# Altium footprint library INDDFN2_780X780X530L260X780.PcbLib: 1 footprints
Each footprint in its own frame and in the unit in brackets; x right, y up, seen from the top. Pads: shape width x height; smd on the part's side, far side on the other; paste and mask are expansions set on the pad; w line width, h text height; cw(c..) or ccw(c..) is an arc to the next point about the centre after c.
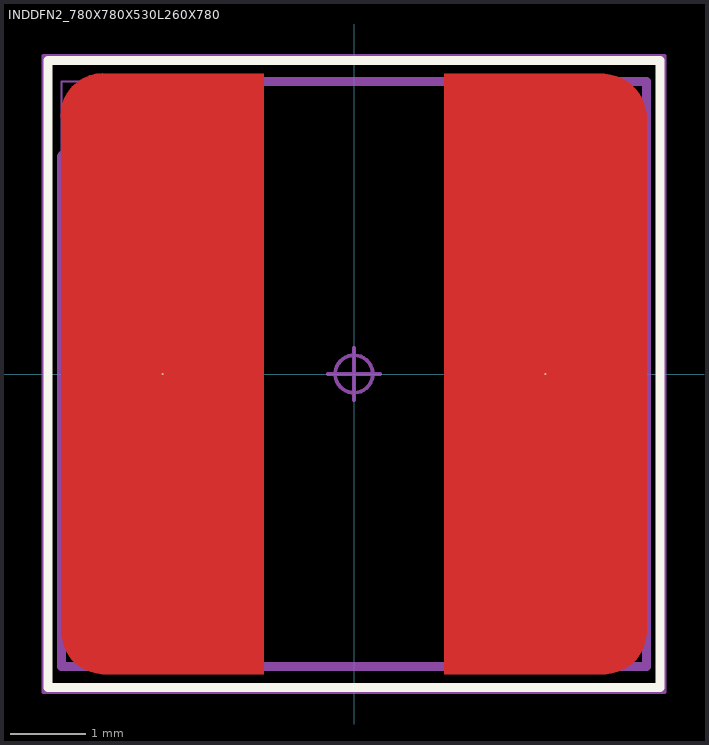
[diagram p0: the footprint, top view; thin cyan lines are the x and y axes]

## INDDFN2_780X780X530L260X780 [mil] "Inductor, Dual Flat No-Lead, 2 pin; 7.80 mm L X 7.80 mm W X 5.30 mm H body"
height 208.66
pads (2):
  round 1 smd mask+1.97: 1(-100.39,0) 2(100.39,0)
Top Layer:
  region: 47.24,157.48 47.24,-157.48 130.91,-157.48 132.39,-157.48 135.33,-157.09 138.2,-156.33 140.94,-155.19 143.51,-153.71 145.86,-151.9 147.96,-149.8 149.77,-147.45 151.25,-144.88 152.39,-142.14 153.16,-139.27 153.54,-136.33 153.54,-134.84 153.54,133.86 153.54,135.41 153.14,138.48 152.34,141.47 151.15,144.33 149.6,147.01 147.72,149.47 145.53,151.66 143.07,153.54 140.39,155.09 137.53,156.27 134.54,157.08 131.47,157.48 129.92,157.48
  region: -47.24,157.48 -47.24,-157.48 -130.91,-157.48 -132.39,-157.48 -135.33,-157.09 -138.2,-156.33 -140.94,-155.19 -143.51,-153.71 -145.86,-151.9 -147.96,-149.8 -149.77,-147.45 -151.25,-144.88 -152.39,-142.14 -153.16,-139.27 -153.54,-136.33 -153.54,-134.84 -153.54,133.86 -153.54,135.41 -153.14,138.48 -152.34,141.47 -151.15,144.33 -149.6,147.01 -147.72,149.47 -145.53,151.66 -143.07,153.54 -140.39,155.09 -137.53,156.27 -134.54,157.08 -131.47,157.48 -129.92,157.48
  lines w1: -153.54,134.84 cw(c-131.4,135.33) -131.89,157.48
Top Overlay:
  lines w4.72: -160.63,-164.57 -160.63,164.57 160.63,164.57 160.63,-164.57 -160.63,-164.57
Mechanical 11:
  lines w4.72: -153.54,-153.54 -153.54,114.17 -114.17,153.54 153.54,153.54 153.54,-153.54 -153.54,-153.54
Mechanical 12:
  lines w0.98: -153.54,-153.54 -51.18,-153.54 -51.18,153.54 -153.54,153.54 ; -153.54,-153.54 -153.54,153.54 ; -153.54,-153.54 -153.54,153.54 ; -153.54,-153.54 153.54,-153.54 ; -153.54,153.54 153.54,153.54 ; 153.54,-153.54 153.54,153.54 ; 153.54,-153.54 51.18,-153.54 51.18,153.54 153.54,153.54 ; 153.54,-153.54 153.54,153.54
Mechanical 15:
  circle w1.97: c0,0 r9.84
  lines w1.97: -13.78,0 13.78,0 ; 0,-13.78 0,13.78 ; -162.99,-166.93 162.99,-166.93 162.99,166.93 -162.99,166.93 -162.99,-166.93
Mechanical 16:
  text ".Designator" at 0,0 h47.24
3D body "SDR0805.STEP": height 208.66, standoff 0, extent -153.54,-153.54 153.54,153.54